# Altium schematic symbol library AO3400A.SchLib: 1 symbol
Pins are listed as number, name and electrical type; pins without a type are passive.

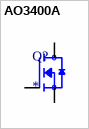
[diagram p0: symbol AO3400A]

## AO3400A
designator Q?
N-Channel 30 V 5.8A (Ta) 1.4W (Ta) Surface Mount SOT-23; MF: UMW; MP: AO3400A; SnapEDA_Link: https://www.snapeda.com/parts/AO3400A/UMW/view-part/?ref=snap; Package: None; Value: *; Check_prices: https://www.snapeda.com/parts/AO3400A/UMW/view-part/?ref=eda
footprint SOT95P280X125-3N
pins: 1 G, 2 S, 3 D